# Altium integrated library switch.IntLib: 1 symbol
Pins are listed as number, name and electrical type; pins without a type are passive.

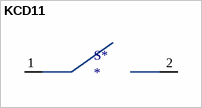
[diagram p0: symbol KCD11]

## KCD11
designator S*
footprint PCBComponent_1
pins: 1, 2